# Altium footprint library Net Tie.PcbLib: 33 footprints (part 1 of 3)
Each footprint in its own frame and in the unit in brackets; x right, y up, seen from the top. Pads: shape width x height; smd on the part's side, far side on the other; paste and mask are expansions set on the pad; w line width, h text height; cw(c..) or ccw(c..) is an arc to the next point about the centre after c.
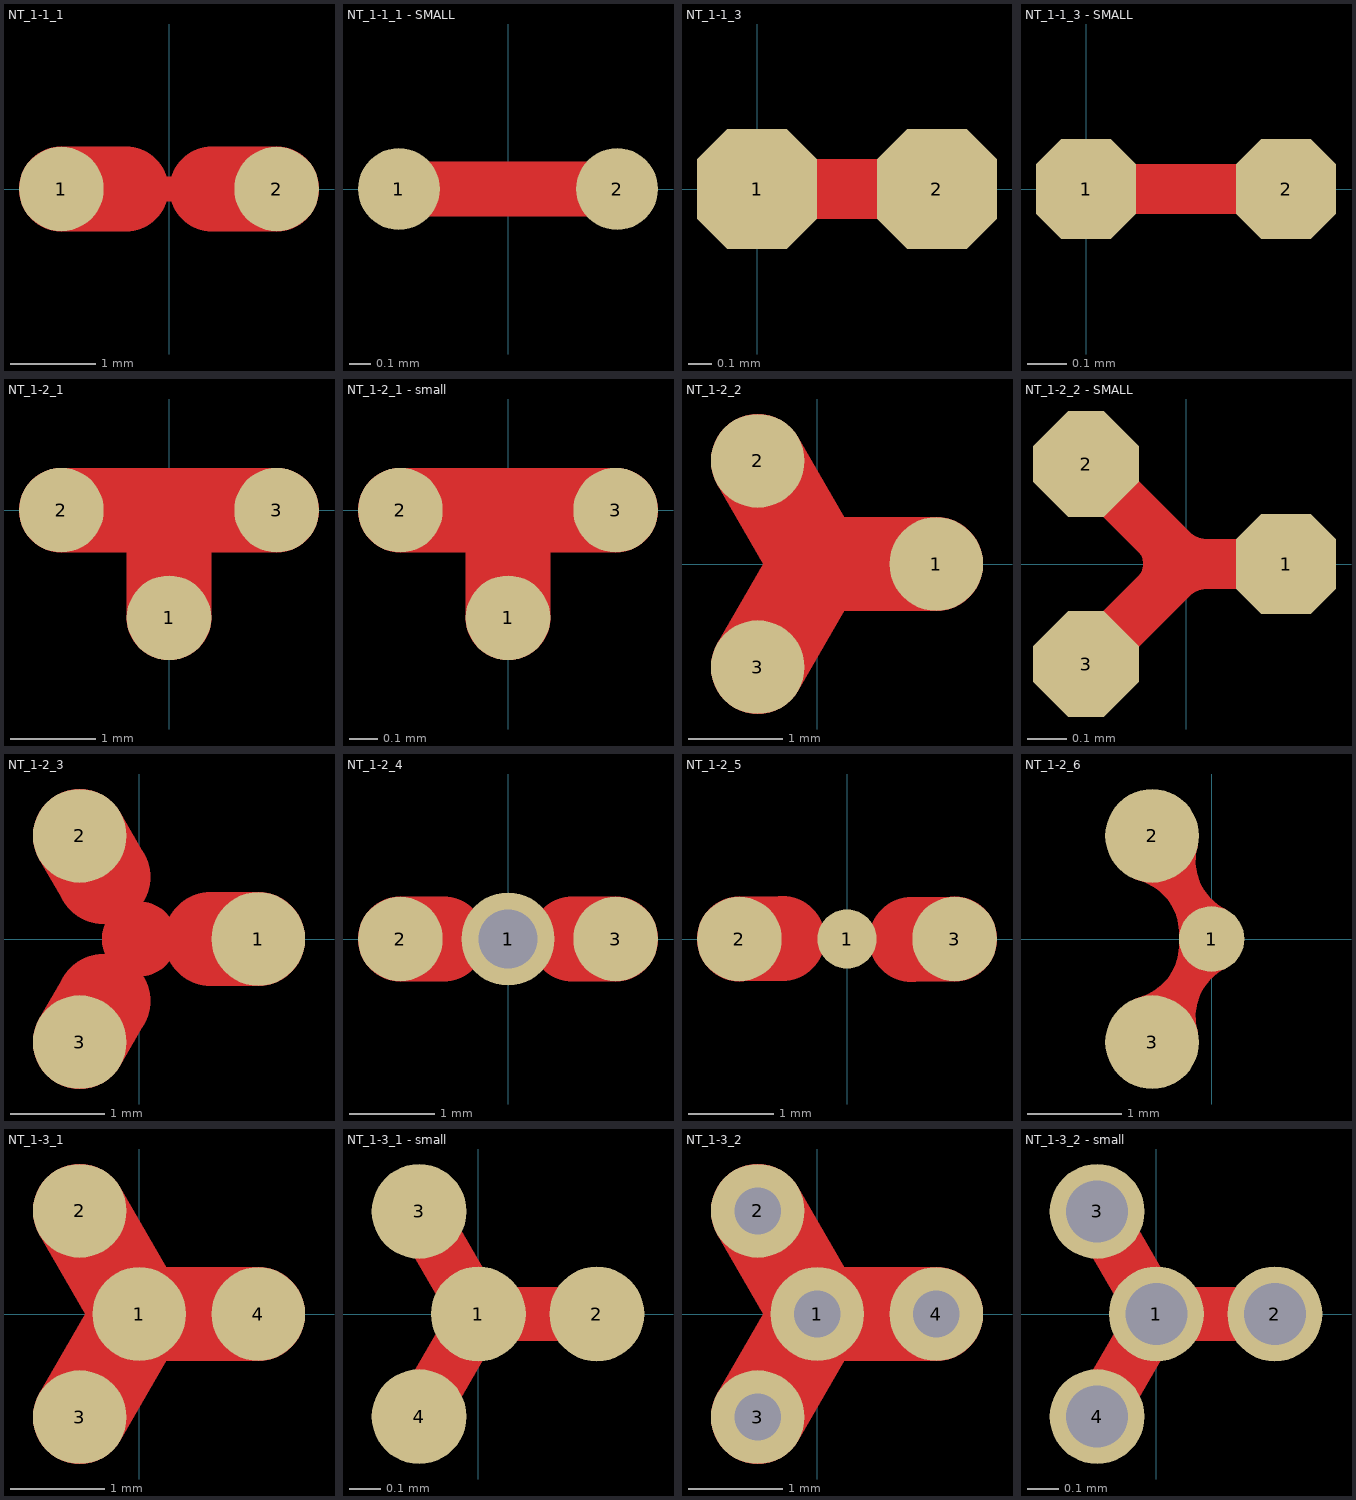
[diagram p0: the footprints below, top view; thin cyan lines are the x and y axes]

## NT_1-1_1 [mm] "NetTie One to One"
pads (2):
  round 1 smd: 1(-1.27,0) 2(1.27,0)
Top Layer:
  lines w0.3: -0.508,0 0.508,0
  lines w1: -1.27,0 -0.508,0 ; 0.508,0 1.27,0

## NT_1-1_1 - SMALL [mil] "NetTie One to One"
pads (2):
  round 15 smd: 1(-20,0) 2(20,0)
Top Layer:
  lines w10: -20,0 20,0

## NT_1-1_3 [mil] "NetTie One to One"
pads (2):
  oct 20x20 smd: 1(0,0) 2(30,0)
Top Layer:
  lines w10: 0,0 30,0

## NT_1-1_3 - SMALL [mil] "NetTie One to One"
pads (2):
  oct 10x10 smd: 1(0,0) 2(20,0)
Top Layer:
  lines w5: 0,0 20,0

## NT_1-2_1 [mm] "NetTie One to Two"
pads (3):
  round 1 smd: 1(0,-1.27) 2(-1.27,0) 3(1.27,0)
Top Layer:
  lines w1: -1.27,0 1.27,0 ; 0,-1.27 0,0

## NT_1-2_1 - small [mm] "NetTie One to Two"
pads (3):
  round 0.3 smd: 1(0,-0.381) 2(-0.381,0) 3(0.381,0)
Top Layer:
  lines w0.3: -0.381,0 0.381,0 ; 0,-0.381 0,0

## NT_1-2_2 [mm] "NetTie One to Two"
pads (3):
  round 1 smd: 1(1.27,0) 2(-0.635,1.1) 3(-0.635,-1.1)
Top Layer:
  lines w1: -0.635,-1.1 0,0 ; -0.635,1.1 0,0 ; 1.27,0 0,0

## NT_1-2_2 - SMALL [mil] "NetTie One to Two"
pads (3):
  oct 10x10 smd: 1(10,0)
  oct 10x10 smd rot 45: 2(-10,10) 3(-10,-10)
Top Layer:
  lines w2: -4.33,-2.21 ccw(c-6.16,0) -4.32,2.2 ; -0.79,-2.88 cw(c2.28,-5.59) 2.5,-1.5 ; -0.79,2.88 ccw(c2.28,5.59) 2.5,1.5
  lines w5: -7,-7 0,0 ; -7,7 0,0 ; 10,0 0,0

## NT_1-2_3 [mm] "NetTie One to Two"
pads (3):
  round 1 smd: 1(1.27,0) 2(-0.635,1.1) 3(-0.635,-1.1)
Top Layer:
  circle w0.4: c0,0 r0.2
  lines w1: -0.635,-1.1 -0.381,-0.66 ; -0.635,1.1 -0.381,0.66 ; 0.762,0 1.27,0

## NT_1-2_4 [mm] "NetTie One to Two"
pads (3):
  round 1.1 / inner round 0.7 / far side round 1.1 hole 0.7: 1(0,0)
  round 1 smd: 2(-1.27,0) 3(1.27,0)
Top Layer:
  lines w1: -1.27,0 -0.762,0 ; 0.762,0 1.27,0

## NT_1-2_5 [mm] "NetTie One to Two"
pads (3):
  round 0.7 smd: 1(0,0)
  round 1 smd: 2(-1.27,0) 3(1.27,0)
Top Layer:
  lines w1: -1.27,0 -0.762,0.005 ; 0.762,-0.005 1.27,0

## NT_1-2_6 [mm] "NetTie One to Two"
pads (3):
  round 0.7 smd: 1(0,0)
  round 1 smd: 2(-0.635,1.1) 3(-0.635,-1.1)
Top Layer:
  lines w0.254: -0.76,-0.749 ccw(c-0.93,-0.058) -0.221,0.006 ; -0.76,0.752 cw(c-0.93,0.061) -0.221,-0.003 ; -0.27,-1.021 cw(c0.398,-0.825) 0.086,-0.202 ; -0.27,1.026 ccw(c0.398,0.83) 0.086,0.207
  lines w0.3: -0.635,-1.1 0,0 -0.635,1.1

## NT_1-3_1 [mm] "NetTie One to Three"
pads (4):
  round 1 smd: 1(0,0) 2(-0.635,1.1) 3(-0.635,-1.1) 4(1.27,0)
Top Layer:
  lines w1: -0.635,-1.1 0,0 ; -0.635,1.1 0,0 ; 1.27,0 0,0

## NT_1-3_1 - small [mil] "NetTie One to Two"
pads (4):
  round 12 smd: 1(0,0) 2(15,0) 3(-7.5,12.99) 4(-7.5,-12.99)
Top Layer:
  lines w6.89: -7.5,-12.99 0,0 ; -7.5,12.99 0,0 ; 15,0 0,0

## NT_1-3_2 [mm] "NetTie One to Three"
pads (4):
  round 1 hole 0.5: 1(0,0) 2(-0.635,1.1) 3(-0.635,-1.1) 4(1.27,0)
Top Layer:
  lines w1: -0.635,-1.1 0,0 ; -0.635,1.1 0,0 ; 1.27,0 0,0

## NT_1-3_2 - small [mil] "NetTie One to Two"
pads (4):
  round 12 hole 7.87: 1(0,0) 2(15,0) 3(-7.5,12.99) 4(-7.5,-12.99)
Top Layer:
  lines w6.89: -7.5,-12.99 0,0 ; -7.5,12.99 0,0 ; 15,0 0,0